# EAGLE library part TCD2565BFG (library ICs)
Highly sensitive and low dark current 5400 pixels × 4 line (RGBM) CCD color image sensor.
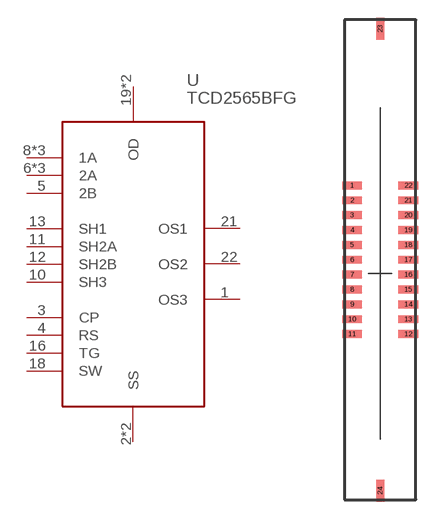
[diagram p158: symbol with the pads of TCD2565BFG; footprint TCD2565BFG]

Designator prefix U

## TCD2565BFG (HEIGHT: 3.5; MOUSER: 757-TCD2565BFGZTC; PRICE_PER: 48.81; VALUE: TCD2565BFG)  [TCD2565BFG]
1  OS3
2  SS
3  CP
4  RS
5  2B
6  2A
7  SS
8  1A
9  2A
10  SH3
11  SH2A
12  SH2B
13  SH1
14  2A
15  1A
16  TG
17  1A
18  SW
19  OD
20  OD
21  OS1
22  OS2

## Footprint TCD2565BFG (pad centres in mm)
smd 1.7 x 0.67: 1 -2.4,6.35; 2 -2.4,5.08; 3 -2.4,3.81; 4 -2.4,2.54; 5 -2.4,1.27; 6 -2.4,0; 7 -2.4,-1.27; 8 -2.4,-2.54; 9 -2.4,-3.81; 10 -2.4,-5.08; 11 -2.4,-6.35; 12 2.4,-6.35; 13 2.4,-5.08; 14 2.4,-3.81; 15 2.4,-2.54; 16 2.4,-1.27; 17 2.4,0; 18 2.4,1.27; 19 2.4,2.54; 20 2.4,3.81; 21 2.4,5.08; 22 2.4,6.35
smd 0.67 x 1.9: 23 0,19.75; 24 0,-19.75